# Altium schematic symbol library RCL.SchLib: 12 symbols
Pins are listed as number, name and electrical type; pins without a type are passive.

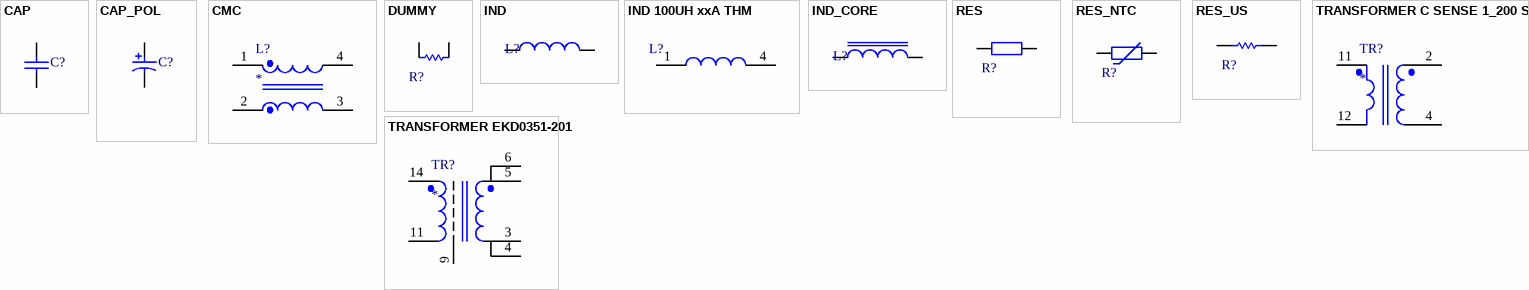
[diagram p0: symbols CAP to TRANSFORMER EKD0351-201]

## CAP
designator C?  (value not drawn)
=Description
pins: 1, 2

## CAP_POL
designator C?  (value not drawn)
=Description
pins: 1, 2

## CMC
designator L?
=Description
pins: 1, 2, 3, 4

## DUMMY
designator R?
=Description
pins: 1, 2

## IND
designator L?
=description
pins: 1, 2

## IND 100UH xxA THM
designator L?
pins: 1, 4

## IND_CORE
designator L?
=description
pins: 1, 2

## RES
designator R?
=Description
pins: 1, 2

## RES_NTC
designator R?
=Description
pins: 1, 2

## RES_US
designator R?
=Description
pins: 1, 2

## TRANSFORMER C SENSE 1_200 SMD
designator TR?
=Description
pins: 2, 4, 11, 12

## TRANSFORMER EKD0351-201
designator TR?
=Description
pins: 3, 4, 5, 6, 9, 11, 14